# EAGLE library part ADDR-5P (library magzor)
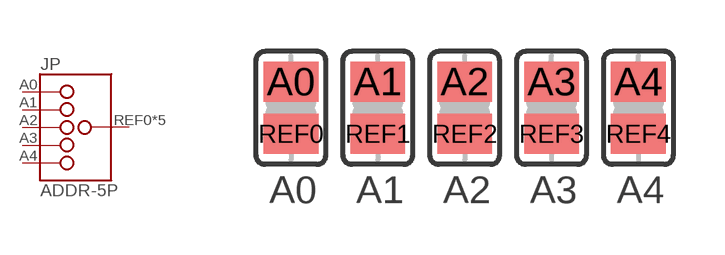
[diagram p21: symbol with the pads of JP-5X-ADDR; footprint JP-5X-ADDR]

Designator prefix JP

## ADDR-5P  [JP-5X-ADDR]
A0  A0
A1  A1
A2  A2
A3  A3
A4  A4
REF0  REF
REF1  REF
REF2  REF
REF3  REF
REF4  REF

## Footprint JP-5X-ADDR (pad centres in mm)
smd 1.6 x 1.168: A0 -5.08,0.762; A1 -2.54,0.762; A2 0,0.762; A3 2.54,0.762; A4 5.08,0.762; REF0 -5.08,-0.762; REF1 -2.54,-0.762; REF2 0,-0.762; REF3 2.54,-0.762; REF4 5.08,-0.762